# Altium schematic symbol library Atmel Touch Solutions.SchLib: 14 symbols
Pins are listed as number, name and electrical type; pins without a type are passive.

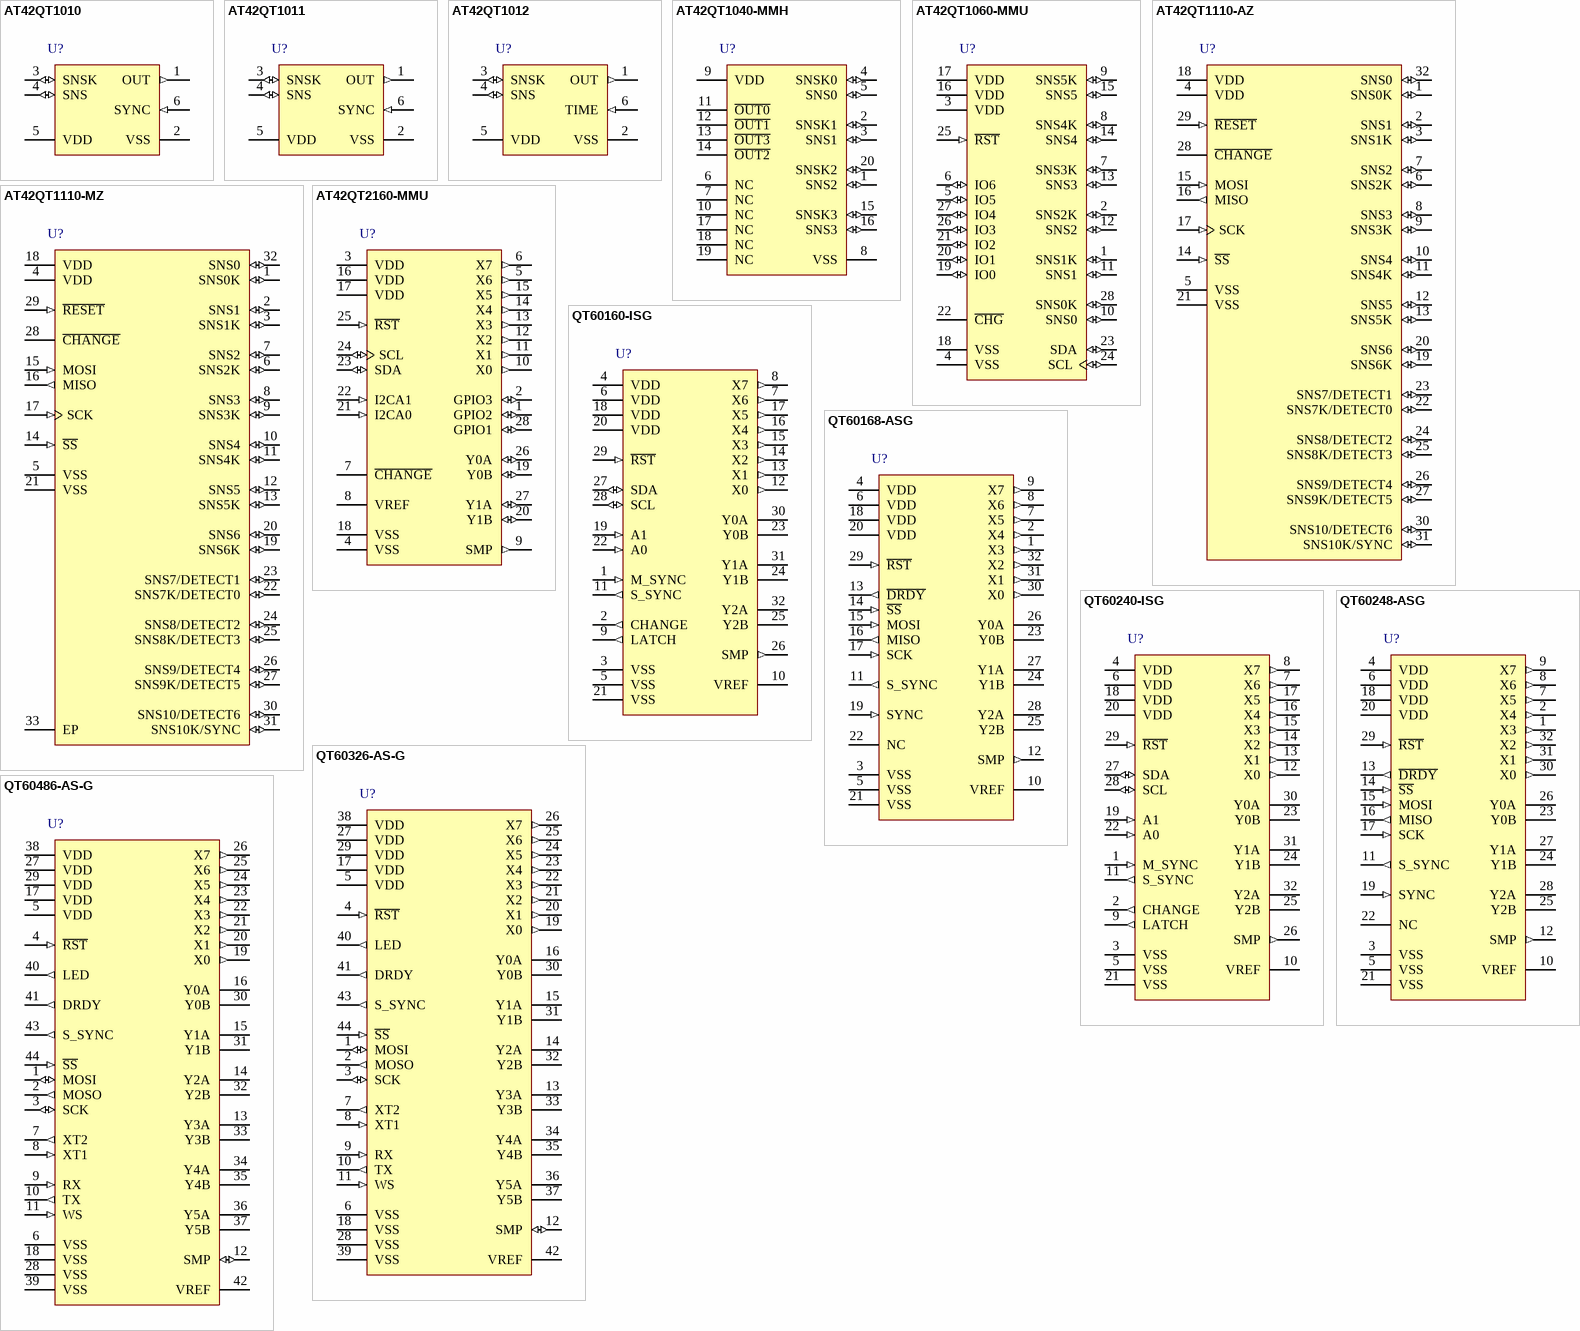
[diagram p0: symbols AT42QT1010 to QT60486-AS-G]

## AT42QT1010
designator U?
One-channel Touch Sensor IC with Reset Timer, 6-pin SOT23; Published: 1-Apr-2010; DatasheetVersion: revES, Feb-2010; PackageVersion: revA, Jun-2008; PackageReference: 6ST1; Publisher: Altium Limited; PackageDescription: 6-Lead, 2.90 x 1.60 mm Plastic Small Outline Package (SOT23); Code_JEDEC: MO-178-AB; Code_IPC: SOT26A-6; ComponentLink1Description: Manufacturer Link; ComponentLink1URL: http://www.atmel.com/products/overview_touch.asp?; ComponentLink2Description: AT42QT1010 Summary; ComponentLink2URL: http://www.atmel.com/dyn/resources/prod_documents/doc9541.pdf; ComponentLink3Description: Atmel.com Home; ComponentLink3URL: http://www.atmel.com
footprint 6ST1_N (SOT23, 6-Leads, Body 2.9x1.6mm, Pitch 0.95mm, Lead Span 2.7mm, IPC Medium Density)
footprint 6ST1_L (SOT23, 6-Leads, Body 2.9x1.6mm, Pitch 0.95mm, Lead Span 2.7mm, IPC High Density)
footprint 6ST1_M (SOT23, 6-Leads, Body 2.9x1.6mm, Pitch 0.95mm, Lead Span 2.7mm, IPC Low Density)
pins: 1 OUT (out), 2 VSS (power), 3 SNSK (io), 4 SNS (io), 5 VDD (power), 6 SYNC (in)

## AT42QT1011
designator U?
One-channel Touch Sensor IC with no Reset Timer, 6-pin SOT23; Published: 1-Apr-2010; DatasheetVersion: revES, Feb-2010; PackageVersion: revA, Jun-2008; PackageReference: 6ST1; Publisher: Altium Limited; PackageDescription: 6-Lead, 2.90 x 1.60 mm Plastic Small Outline Package (SOT23); Code_JEDEC: MO-178-AB; Code_IPC: SOT26A-6; ComponentLink1Description: Manufacturer Link; ComponentLink1URL: http://www.atmel.com/products/overview_touch.asp?; ComponentLink2Description: AT42QT1011 Summary; ComponentLink2URL: http://www.atmel.com/dyn/resources/prod_documents/doc9542.pdf; ComponentLink3Description: Atmel.com Home; ComponentLink3URL: http://www.atmel.com
footprint 6ST1_N (SOT23, 6-Leads, Body 2.9x1.6mm, Pitch 0.95mm, Lead Span 2.7mm, IPC Medium Density)
footprint 6ST1_L (SOT23, 6-Leads, Body 2.9x1.6mm, Pitch 0.95mm, Lead Span 2.7mm, IPC High Density)
footprint 6ST1_M (SOT23, 6-Leads, Body 2.9x1.6mm, Pitch 0.95mm, Lead Span 2.7mm, IPC Low Density)
pins: 1 OUT (out), 2 VSS (power), 3 SNSK (io), 4 SNS (io), 5 VDD (power), 6 SYNC (in)

## AT42QT1012
designator U?
One-channel Toggle-mode Touch Sensor IC with Power Management Functions, 6-pin SOT23; Published: 1-Apr-2010; DatasheetVersion: revCS, Feb-2010; PackageVersion: revA, Jun-2008; PackageReference: 6ST1; Publisher: Altium Limited; PackageDescription: 6-Lead, 2.90 x 1.60 mm Plastic Small Outline Package (SOT23); Code_JEDEC: MO-178-AB; Code_IPC: SOT26A-6; ComponentLink1Description: Manufacturer Link; ComponentLink1URL: http://www.atmel.com/products/overview_touch.asp?; ComponentLink2Description: AT42QT1012 Summary; ComponentLink2URL: http://www.atmel.com/dyn/resources/prod_documents/9543S.pdf; ComponentLink3Description: Atmel.com Home; ComponentLink3URL: http://www.atmel.com
footprint 6ST1_N (SOT23, 6-Leads, Body 2.9x1.6mm, Pitch 0.95mm, Lead Span 2.7mm, IPC Medium Density)
footprint 6ST1_L (SOT23, 6-Leads, Body 2.9x1.6mm, Pitch 0.95mm, Lead Span 2.7mm, IPC High Density)
footprint 6ST1_M (SOT23, 6-Leads, Body 2.9x1.6mm, Pitch 0.95mm, Lead Span 2.7mm, IPC Low Density)
pins: 1 OUT (out), 2 VSS (power), 3 SNSK (io), 4 SNS (io), 5 VDD (power), 6 TIME (in)

## AT42QT1040-MMH
designator U?
QTouch 4-key Sensor IC, 20-Pin VQFN; Published: 1-Apr-2010; DatasheetVersion: revB, Apr-2009; PackageVersion: revB, Oct-2008; PackageReference: 20M2; Publisher: Altium Limited; PackageDescription: 20-pad, 3x3x0.85mm Body, Pitch 0.45mm, 1.55x1.55mm Exposed Pad, Plastic Very Thin QFN Package (VQFN); Supplier 1: Digi-Key; Supplier Part Number 1: AT42QT1040-MMHTR-ND; Supplier 2: Digi-Key; Supplier Part Number 2: AT42QT1040-MMHCT-ND; Supplier 3: Digi-Key; Supplier Part Number 3: AT42QT1040-MMHDKR-ND; Supplier 4: Farnell; Supplier Part Number 4: 1748487; Supplier 5: Mouser; Supplier Part Number 5: 556-AT42QT1040-MMH; ComponentLink1Description: Manufacturer Link; ComponentLink1URL: http://www.atmel.com/products/overview_touch.asp?; ComponentLink2Description: AT42QT1040 Summary; ComponentLink2URL: http://www.atmel.com/dyn/resources/prod_documents/doc9524.pdf; ComponentLink3Description: Atmel.com Home; ComponentLink3URL: http://www.atmel.com
footprint 20M2_N (QFN, 20-Leads, Body 3x3mm, Pitch 0.45mm, IPC Medium Density)
footprint 20M2_L (QFN, 20-Leads, Body 3x3mm, Pitch 0.45mm, IPC High Density)
footprint 20M2_M (QFN, 20-Leads, Body 3x3mm, Pitch 0.45mm, IPC Low Density)
pins: 1 SNS2 (io), 2 SNSK1 (io), 3 SNS1 (io), 4 SNSK0 (io), 5 SNS0 (io), 6 NC, 7 NC, 8 VSS (power), 9 VDD (power), 10 NC, 11 ~{OUT0} (oc), 12 ~{OUT1} (oc), 13 ~{OUT3} (oc), 14 ~{OUT2} (oc), 15 SNSK3 (io), 16 SNS3 (io), 17 NC, 18 NC, 19 NC, 20 SNSK2 (io)

## AT42QT1060-MMU
designator U?
QTouch 6-channel Sensor IC, 28-Pin VQFN; Published: 1-Apr-2010; DatasheetVersion: revE, Feb-2009; PackageVersion: revB, Nov-2008; PackageReference: 28M1; Publisher: Altium Limited; PackageDescription: 28-pad, 4x4x1.0mm Body, Pitch 0.45mm, 2.4x2.4mm Exposed Pad, Plastic Very Thin QFN Package (VQFN); Supplier 1: Digi-Key; Supplier Part Number 1: AT42QT1060-MMUTR-ND; Supplier 2: Digi-Key; Supplier Part Number 2: AT42QT1060-MMUCT-ND; Supplier 3: Digi-Key; Supplier Part Number 3: AT42QT1060-MMUDKR-ND; Supplier 4: Farnell; Supplier Part Number 4: 1748489; Supplier 5: Mouser; Supplier Part Number 5: 556-AT42QT1060-MMU; ComponentLink1Description: Manufacturer Link; ComponentLink1URL: http://www.atmel.com/products/overview_touch.asp?; ComponentLink2Description: AT42QT1060 Summary; ComponentLink2URL: http://www.atmel.com/dyn/resources/prod_documents/doc9505.pdf; ComponentLink3Description: Atmel.com Home; ComponentLink3URL: http://www.atmel.com
footprint 28M1_N (QFN, 28-Leads, Body 4x4mm, Pitch 0.45mm, IPC Medium Density)
footprint 28M1_L (QFN, 28-Leads, Body 4x4mm, Pitch 0.45mm, IPC High Density)
footprint 28M1_M (QFN, 28-Leads, Body 4x4mm, Pitch 0.45mm, IPC Low Density)
pins: 1 SNS1K (io), 2 SNS2K (io), 3 VDD (power), 4 VSS (power), 5 IO5 (io), 6 IO6 (io), 7 SNS3K (io), 8 SNS4K (io), 9 SNS5K (io), 10 SNS0 (io), 11 SNS1 (io), 12 SNS2 (io), 13 SNS3 (io), 14 SNS4 (io), 15 SNS5 (io), 16 VDD (power), 17 VDD (power), 18 VSS (power), 19 IO0 (io), 20 IO1 (io), 21 IO2 (io), 22 ~{CHG} (oc), 23 SDA (io), 24 SCL (io), 25 ~{RST} (in), 26 IO3 (io), 27 IO4 (io), 28 SNS0K (io)

## AT42QT1110-AZ
designator U?
QTouch 11-key Sensor IC, 32-Pin TQFP; Published: 1-Apr-2010; DatasheetVersion: revH, Feb-2010; PackageVersion: revB, Oct-2001; PackageReference: 32A; Publisher: Altium Limited; PackageDescription: 32-Lead, 7x7x1.0 mm Body, 0.8mm Lead Pitch, Thin Profile Plastic Quad Flat Package (TQFP); Supplier 1: Digi-Key; Supplier Part Number 1: AT42QT1110-AZ-ND; Supplier 2: Mouser; Supplier Part Number 2: 556-AT42QT1110-AZ; Code_JEDEC: MS-026-ABA; ComponentLink1Description: Manufacturer Link; ComponentLink1URL: http://www.atmel.com/products/overview_touch.asp?; ComponentLink2Description: AT42QT1110 Datasheet; ComponentLink2URL: http://www.atmel.com/dyn/resources/prod_documents/doc9570.pdf; ComponentLink3Description: Atmel.com Home; ComponentLink3URL: http://www.atmel.com
footprint 32A_N (Thin QFP, 32-Leads, Body 7x7mm, Pitch 0.8mm, IPC Medium Density)
footprint 32A_L (Thin QFP, 32-Leads, Body 7x7mm, Pitch 0.8mm, IPC High Density)
footprint 32A_M (Thin QFP, 32-Leads, Body 7x7mm, Pitch 0.8mm, IPC Low Density)
pins: 1 SNS0K (io), 2 SNS1 (io), 3 SNS1K (io), 4 VDD (power), 5 VSS (power), 6 SNS2K (io), 7 SNS2 (io), 8 SNS3 (io), 9 SNS3K (io), 10 SNS4 (io), 11 SNS4K (io), 12 SNS5 (io), 13 SNS5K (io), 14 ~{SS} (in), 15 MOSI (in), 16 MISO (out), 17 SCK (in), 18 VDD (power), 19 SNS6K (io), 20 SNS6 (io), 21 VSS (power), 22 SNS7K/DETECT0 (io), 23 SNS7/DETECT1 (io), 24 SNS8/DETECT2 (io), 25 SNS8K/DETECT3 (io), 26 SNS9/DETECT4 (io), 27 SNS9K/DETECT5 (io), 28 ~{CHANGE} (oc), 29 ~{RESET} (in), 30 SNS10/DETECT6 (io), 31 SNS10K/SYNC (io), 32 SNS0 (io)

## AT42QT1110-MZ
designator U?
QTouch 11-key Sensor IC, 32-Pin QFN; Published: 1-Apr-2010; DatasheetVersion: revH, Feb-2010; PackageVersion: revG, Nov-2008; PackageReference: 32PN; Publisher: Altium Limited; PackageDescription: 32-Pin Quad Flat No-Lead, 5 x 5 mm Body,  0.5 mm Pitch (QFN); Supplier 1: Digi-Key; Supplier Part Number 1: AT42QT1110-MZ-ND; Supplier 2: Mouser; Supplier Part Number 2: 556-AT42QT1110-MZ; Code_JEDEC: MO-220-VHHD-2; ComponentLink1Description: Manufacturer Link; ComponentLink1URL: http://www.atmel.com/products/overview_touch.asp?; ComponentLink2Description: AT42QT1110 Datasheet; ComponentLink2URL: http://www.atmel.com/dyn/resources/prod_documents/doc9570.pdf; ComponentLink3Description: Atmel.com Home; ComponentLink3URL: http://www.atmel.com
footprint 32PN_N (QFN, 32-Leads, Body 5x5mm, Pitch 0.5mm, IPC Medium Density)
footprint 32PN_L (QFN, 32-Leads, Body 5x5mm, Pitch 0.5mm, IPC High Density)
footprint 32PN_M (QFN, 32-Leads, Body 5x5mm, Pitch 0.5mm, IPC Low Density)
pins: 1 SNS0K (io), 2 SNS1 (io), 3 SNS1K (io), 4 VDD (power), 5 VSS (power), 6 SNS2K (io), 7 SNS2 (io), 8 SNS3 (io), 9 SNS3K (io), 10 SNS4 (io), 11 SNS4K (io), 12 SNS5 (io), 13 SNS5K (io), 14 ~{SS} (in), 15 MOSI (in), 16 MISO (out), 17 SCK (in), 18 VDD (power), 19 SNS6K (io), 20 SNS6 (io), 21 VSS (power), 22 SNS7K/DETECT0 (io), 23 SNS7/DETECT1 (io), 24 SNS8/DETECT2 (io), 25 SNS8K/DETECT3 (io), 26 SNS9/DETECT4 (io), 27 SNS9K/DETECT5 (io), 28 ~{CHANGE} (oc), 29 ~{RESET} (in), 30 SNS10/DETECT6 (io), 31 SNS10K/SYNC (io), 32 SNS0 (io), 33 EP (power)

## AT42QT2160-MMU
designator U?
QSlide 16-key QMatrix Sensor IC, 28-Pin VQFN; Published: 1-Apr-2010; DatasheetVersion: revA, Jul-2008; PackageVersion: revB, Nov-2008; PackageReference: 28M1; Publisher: Altium Limited; PackageDescription: 28-pad, 4x4x1.0mm Body, Pitch 0.45mm, 2.4x2.4mm Exposed Pad, Plastic Very Thin QFN Package (VQFN); Supplier 1: Digi-Key; Supplier Part Number 1: 427-1140-2-ND; Supplier 2: Digi-Key; Supplier Part Number 2: 427-1140-1-ND; Supplier 3: Digi-Key; Supplier Part Number 3: 427-1140-6-ND; Supplier 4: Farnell; Supplier Part Number 4: 1748491; Supplier 5: Mouser; Supplier Part Number 5: 556-AT42QT2160-MMU; ComponentLink1Description: Manufacturer Link; ComponentLink1URL: http://www.atmel.com/products/overview_touch.asp?; ComponentLink2Description: AT42QT2160 Summary; ComponentLink2URL: http://www.atmel.com/dyn/resources/prod_documents/AT42QT2160_DS.pdf; ComponentLink3Description: Atmel.com Home; ComponentLink3URL: http://www.atmel.com
footprint 28M1_N (QFN, 28-Leads, Body 4x4mm, Pitch 0.45mm, IPC Medium Density)
footprint 28M1_L (QFN, 28-Leads, Body 4x4mm, Pitch 0.45mm, IPC High Density)
footprint 28M1_M (QFN, 28-Leads, Body 4x4mm, Pitch 0.45mm, IPC Low Density)
pins: 1 GPIO2 (io), 2 GPIO3 (io), 3 VDD (power), 4 VSS (power), 5 X6 (out), 6 X7 (out), 7 ~{CHANGE} (oc), 8 VREF (power), 9 SMP (out), 10 X0 (out), 11 X1 (out), 12 X2 (out), 13 X3 (out), 14 X4 (out), 15 X5 (out), 16 VDD (power), 17 VDD (power), 18 VSS (power), 19 Y0B (io), 20 Y1B (io), 21 I2CA0 (in), 22 I2CA1 (in), 23 SDA (io), 24 SCL (io), 25 ~{RST} (in), 26 Y0A (io), 27 Y1A (io), 28 GPIO1 (io)

## QT60160-ISG
designator U?
16-key QMatrix Touch Sensor IC, 32-Pin MLF; Published: 1-Apr-2010; DatasheetVersion: rev6, Sep-2006; PackageVersion: 2006; PackageReference: MLF-32; Publisher: Altium Limited; PackageDescription: 32-Pin Quad Flat No-Lead, 5 x 5 mm Body,  0.5 mm Pitch (MLF); Supplier 1: Digi-Key; Supplier Part Number 1: 427-1125-2-ND; Supplier 2: Digi-Key; Supplier Part Number 2: 427-1125-1-ND; Supplier 3: Farnell; Supplier Part Number 3: 1323409; Supplier 4: Mouser; Supplier Part Number 4: 556-QT60160-ISG; ComponentLink1Description: Manufacturer Link; ComponentLink1URL: http://www.atmel.com/products/overview_touch.asp?; ComponentLink2Description: QT60160 Summary; ComponentLink2URL: http://www.atmel.com/dyn/resources/prod_documents/qt60240_r8.06.pdf; ComponentLink3Description: Atmel.com Home; ComponentLink3URL: http://www.atmel.com
footprint MLF-32_N (QFN, 32-Leads, Body 5x5mm, Pitch 0.5mm, IPC Medium Density)
footprint MLF-32_L (QFN, 32-Leads, Body 5x5mm, Pitch 0.5mm, IPC High Density)
footprint MLF-32_M (QFN, 32-Leads, Body 5x5mm, Pitch 0.5mm, IPC Low Density)
pins: 1 M_SYNC (in), 2 CHANGE (out), 3 VSS (power), 4 VDD (power), 5 VSS (power), 6 VDD (power), 7 X6 (out), 8 X7 (out), 9 LATCH (out), 10 VREF (power), 11 S_SYNC (out), 12 X0 (out), 13 X1 (out), 14 X2 (out), 15 X3 (out), 16 X4 (out), 17 X5 (out), 18 VDD (power), 19 A1 (in), 20 VDD (power), 21 VSS (power), 22 A0 (in), 23 Y0B, 24 Y1B, 25 Y2B, 26 SMP (out), 27 SDA (io), 28 SCL (io), 29 ~{RST} (in), 30 Y0A, 31 Y1A, 32 Y2A

## QT60168-ASG
designator U?
QProx 16-key QMatrix Touch Sensor IC, 32-Pin TQFP; Published: 1-Apr-2010; DatasheetVersion: rev2, Apr-2005; PackageVersion: revB, Oct-2001; PackageReference: 32A; Publisher: Altium Limited; PackageDescription: 32-Lead, 7x7x1.0 mm Body, 0.8mm Lead Pitch, Thin Profile Plastic Quad Flat Package (TQFP); Supplier 1: Digi-Key; Supplier Part Number 1: 427-1107-ND; Supplier 2: Farnell; Supplier Part Number 2: 1528293; Supplier 3: Farnell; Supplier Part Number 3: 1099146; Supplier 4: Mouser; Supplier Part Number 4: 556-QT60168-ASG; Code_JEDEC: MS-026-ABA; ComponentLink1Description: Manufacturer Link; ComponentLink1URL: http://www.atmel.com/products/overview_touch.asp?; ComponentLink2Description: QT60168 Summary; ComponentLink2URL: http://www.atmel.com/dyn/resources/prod_documents/qt60248_402.pdf; ComponentLink3Description: Atmel.com Home; ComponentLink3URL: http://www.atmel.com
footprint 32A_N (Thin QFP, 32-Leads, Body 7x7mm, Pitch 0.8mm, IPC Medium Density)
footprint 32A_L (Thin QFP, 32-Leads, Body 7x7mm, Pitch 0.8mm, IPC High Density)
footprint 32A_M (Thin QFP, 32-Leads, Body 7x7mm, Pitch 0.8mm, IPC Low Density)
pins: 1 X3 (out), 2 X4 (out), 3 VSS (power), 4 VDD (power), 5 VSS (power), 6 VDD (power), 7 X5 (out), 8 X6 (out), 9 X7 (out), 10 VREF (power), 11 S_SYNC (out), 12 SMP (out), 13 ~{DRDY} (out), 14 ~{SS} (in), 15 MOSI (in), 16 MISO (out), 17 SCK (in), 18 VDD (power), 19 SYNC (in), 20 VDD (power), 21 VSS (power), 22 NC, 23 Y0B, 24 Y1B, 25 Y2B, 26 Y0A, 27 Y1A, 28 Y2A, 29 ~{RST} (in), 30 X0 (out), 31 X1 (out), 32 X2 (out)

## QT60240-ISG
designator U?
24-key QMatrix Touch Sensor IC, 32-Pin MLF; Published: 1-Apr-2010; DatasheetVersion: rev6, Sep-2006; PackageVersion: 2006; PackageReference: MLF-32; Publisher: Altium Limited; PackageDescription: 32-Pin Quad Flat No-Lead, 5 x 5 mm Body,  0.5 mm Pitch (MLF); Supplier 1: Digi-Key; Supplier Part Number 1: 427-1126-2-ND; Supplier 2: Digi-Key; Supplier Part Number 2: 427-1126-1-ND; Supplier 3: Farnell; Supplier Part Number 3: 1323410; Supplier 4: Mouser; Supplier Part Number 4: 556-QT60240-ISG; ComponentLink1Description: Manufacturer Link; ComponentLink1URL: http://www.atmel.com/products/overview_touch.asp?; ComponentLink2Description: QT60240 Summary; ComponentLink2URL: http://www.atmel.com/dyn/resources/prod_documents/qt60240_r8.06.pdf; ComponentLink3Description: Atmel.com Home; ComponentLink3URL: http://www.atmel.com
footprint MLF-32_N (QFN, 32-Leads, Body 5x5mm, Pitch 0.5mm, IPC Medium Density)
footprint MLF-32_L (QFN, 32-Leads, Body 5x5mm, Pitch 0.5mm, IPC High Density)
footprint MLF-32_M (QFN, 32-Leads, Body 5x5mm, Pitch 0.5mm, IPC Low Density)
pins: 1 M_SYNC (in), 2 CHANGE (out), 3 VSS (power), 4 VDD (power), 5 VSS (power), 6 VDD (power), 7 X6 (out), 8 X7 (out), 9 LATCH (out), 10 VREF (power), 11 S_SYNC (out), 12 X0 (out), 13 X1 (out), 14 X2 (out), 15 X3 (out), 16 X4 (out), 17 X5 (out), 18 VDD (power), 19 A1 (in), 20 VDD (power), 21 VSS (power), 22 A0 (in), 23 Y0B, 24 Y1B, 25 Y2B, 26 SMP (out), 27 SDA (io), 28 SCL (io), 29 ~{RST} (in), 30 Y0A, 31 Y1A, 32 Y2A

## QT60248-ASG
designator U?
QProx 24-key QMatrix Touch Sensor IC, 32-Pin TQFP; Published: 1-Apr-2010; DatasheetVersion: rev2, Apr-2005; PackageVersion: revB, Oct-2001; PackageReference: 32A; Publisher: Altium Limited; PackageDescription: 32-Lead, 7x7x1.0 mm Body, 0.8mm Lead Pitch, Thin Profile Plastic Quad Flat Package (TQFP); Supplier 1: Digi-Key; Supplier Part Number 1: 427-1108-ND; Supplier 2: Farnell; Supplier Part Number 2: 1528295; Supplier 3: Farnell; Supplier Part Number 3: 1099147; Supplier 4: Mouser; Supplier Part Number 4: 556-QT60248-ASG; Code_JEDEC: MS-026-ABA; ComponentLink1Description: Manufacturer Link; ComponentLink1URL: http://www.atmel.com/products/overview_touch.asp?; ComponentLink2Description: QT60248 Summary; ComponentLink2URL: http://www.atmel.com/dyn/resources/prod_documents/qt60248_402.pdf; ComponentLink3Description: Atmel.com Home; ComponentLink3URL: http://www.atmel.com
footprint 32A_N (Thin QFP, 32-Leads, Body 7x7mm, Pitch 0.8mm, IPC Medium Density)
footprint 32A_L (Thin QFP, 32-Leads, Body 7x7mm, Pitch 0.8mm, IPC High Density)
footprint 32A_M (Thin QFP, 32-Leads, Body 7x7mm, Pitch 0.8mm, IPC Low Density)
pins: 1 X3 (out), 2 X4 (out), 3 VSS (power), 4 VDD (power), 5 VSS (power), 6 VDD (power), 7 X5 (out), 8 X6 (out), 9 X7 (out), 10 VREF (power), 11 S_SYNC (out), 12 SMP (out), 13 ~{DRDY} (out), 14 ~{SS} (in), 15 MOSI (in), 16 MISO (out), 17 SCK (in), 18 VDD (power), 19 SYNC (in), 20 VDD (power), 21 VSS (power), 22 NC, 23 Y0B, 24 Y1B, 25 Y2B, 26 Y0A, 27 Y1A, 28 Y2A, 29 ~{RST} (in), 30 X0 (out), 31 X1 (out), 32 X2 (out)

## QT60326-AS-G
designator U?
32-key QMatrix Touch Sensor IC, 44-Pin TQFP; Published: 1-Apr-2010; DatasheetVersion: rev1, Jan-2005; PackageVersion: rev.B, Oct-2001; PackageReference: 44A; Publisher: Altium Limited; PackageDescription: 44-Pin Plastic Thin Profile Quad Flat Pack, 10 x 10 x 1.0 mm Body, 0.8 mm Pitch (TQFP); ComponentLink1Description: Manufacturer Link; ComponentLink1URL: http://www.atmel.com/products/overview_touch.asp?; ComponentLink2Description: QT60326 Summary; ComponentLink2URL: http://www.atmel.com/dyn/resources/prod_documents/qt60486_801.pdf; ComponentLink3Description: Atmel.com Home; ComponentLink3URL: http://www.atmel.com
footprint 44A_N (Thin QFP, 44-Leads, Body 10x10mm, Pitch 0.8mm, IPC Medium Density)
footprint 44A_L (Thin QFP, 44-Leads, Body 10x10mm, Pitch 0.8mm, IPC High Density)
footprint 44A_M (Thin QFP, 44-Leads, Body 10x10mm, Pitch 0.8mm, IPC Low Density)
pins: 1 MOSI (io), 2 MOSO (out), 3 SCK (io), 4 ~{RST} (in), 5 VDD (power), 6 VSS (power), 7 XT2 (out), 8 XT1 (in), 9 RX (in), 10 TX (out), 11 WS (in), 12 SMP (io), 13 Y3A, 14 Y2A, 15 Y1A, 16 Y0A, 17 VDD (power), 18 VSS (power), 19 X0 (out), 20 X1 (out), 21 X2 (out), 22 X3 (out), 23 X4 (out), 24 X5 (out), 25 X6 (out), 26 X7 (out), 27 VDD (power), 28 VSS (power), 29 VDD (power), 30 Y0B, 31 Y1B, 32 Y2B, 33 Y3B, 34 Y4A, 35 Y4B, 36 Y5A, 37 Y5B, 38 VDD (power), 39 VSS (power), 40 LED (out), 41 DRDY (out), 42 VREF (power), 43 S_SYNC (out), 44 ~{SS} (in)

## QT60486-AS-G
designator U?
48-key QMatrix Touch Sensor IC, 44-Pin TQFP; Published: 1-Apr-2010; DatasheetVersion: rev1, Jan-2005; PackageVersion: rev.B, Oct-2001; PackageReference: 44A; Publisher: Altium Limited; PackageDescription: 44-Pin Plastic Thin Profile Quad Flat Pack, 10 x 10 x 1.0 mm Body, 0.8 mm Pitch (TQFP); ComponentLink1Description: Manufacturer Link; ComponentLink1URL: http://www.atmel.com/products/overview_touch.asp?; ComponentLink2Description: QT60486 Summary; ComponentLink2URL: http://www.atmel.com/dyn/resources/prod_documents/qt60486_801.pdf; ComponentLink3Description: Atmel.com Home; ComponentLink3URL: http://www.atmel.com
footprint 44A_N (Thin QFP, 44-Leads, Body 10x10mm, Pitch 0.8mm, IPC Medium Density)
footprint 44A_L (Thin QFP, 44-Leads, Body 10x10mm, Pitch 0.8mm, IPC High Density)
footprint 44A_M (Thin QFP, 44-Leads, Body 10x10mm, Pitch 0.8mm, IPC Low Density)
pins: 1 MOSI (io), 2 MOSO (out), 3 SCK (io), 4 ~{RST} (in), 5 VDD (power), 6 VSS (power), 7 XT2 (out), 8 XT1 (in), 9 RX (in), 10 TX (out), 11 WS (in), 12 SMP (io), 13 Y3A, 14 Y2A, 15 Y1A, 16 Y0A, 17 VDD (power), 18 VSS (power), 19 X0 (out), 20 X1 (out), 21 X2 (out), 22 X3 (out), 23 X4 (out), 24 X5 (out), 25 X6 (out), 26 X7 (out), 27 VDD (power), 28 VSS (power), 29 VDD (power), 30 Y0B, 31 Y1B, 32 Y2B, 33 Y3B, 34 Y4A, 35 Y4B, 36 Y5A, 37 Y5B, 38 VDD (power), 39 VSS (power), 40 LED (out), 41 DRDY (out), 42 VREF (power), 43 S_SYNC (out), 44 ~{SS} (in)